# EAGLE library part A3*-8DA-2SV (library DAC)
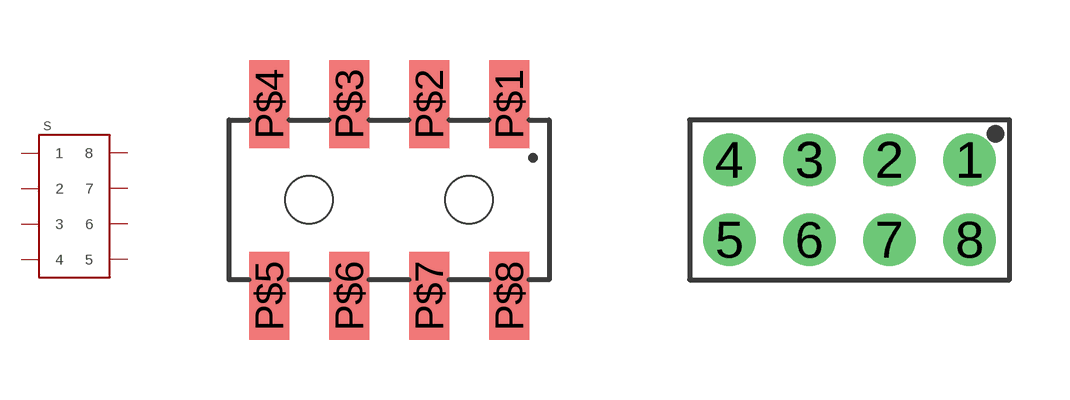
[diagram p5: symbol with the pads of 2MMDUALSMD; footprints 2MMDUALSMD, TEST]

Designator prefix S

## A3-8DA-2SV  [2MMDUALSMD]
P$1  1
P$2  2
P$3  3
P$4  4
P$5  5
P$6  6
P$7  7
P$8  8

## A3-8DA-2SV2  [TEST]
1  1
2  2
3  3
4  4
5  5
6  6
7  7
8  8

## Footprint 2MMDUALSMD (pad centres in mm)
smd 1 x 2.2: P$1 3,2.4; P$2 1,2.4; P$3 -1,2.4; P$4 -3,2.4; P$5 -3,-2.4; P$6 -1,-2.4; P$7 1,-2.4; P$8 3,-2.4
hole 1.194 at -2,0
hole 1.194 at 2,0

## Footprint TEST (pad centres in mm)
drill 0.813 pad 1.143 round: 1 3,1; 2 1,1; 3 -1,1; 4 -3,1; 5 -3,-1; 6 -1,-1; 7 1,-1; 8 3,-1